# EAGLE library part SCD40-D-R1 (library SCD40-D-R1)
Check availability <https://pricing.snapeda.com/parts/SCD40-D-R1/Sensirion%20AG/view-part?ref=eda>
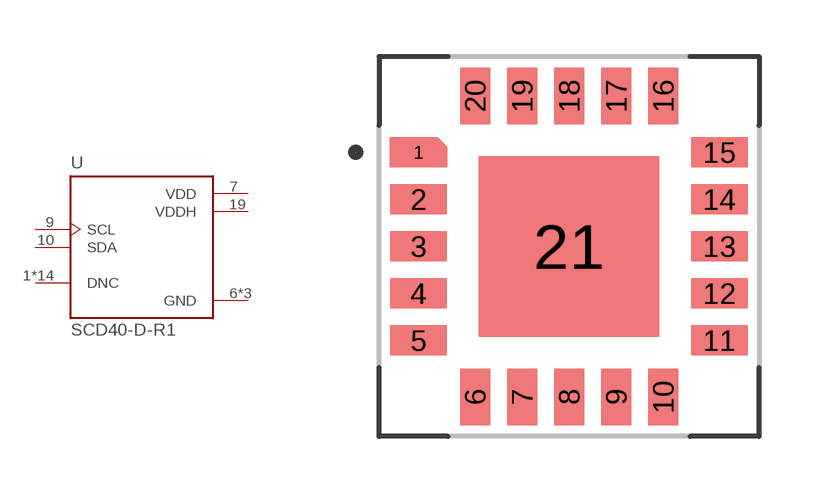
[diagram p0: symbol with the pads of XDCR_SCD40-D-R1; footprint XDCR_SCD40-D-R1]

Designator prefix U

## SCD40-D-R1 (Availability: In Stock; Check_prices: https://www.snapeda.com/parts/SCD40-D-R1/Sensirion/view-part/?ref=eda; Description: Carbon Dioxide (CO2), Humidity, Temperature Sensor I2C; MF: Sensirion AG; MP: SCD40-D-R1; Package: None; Price: None; SnapEDA_Link: https://www.snapeda.com/parts/SCD40-D-R1/Sensirion/view-part/?ref=snap)  [XDCR_SCD40-D-R1]
1  DNC  nc
2  DNC  nc
3  DNC  nc
4  DNC  nc
5  DNC  nc
6  GND  pwr
7  VDD  pwr
8  DNC  nc
9  SCL  in
10  SDA
11  DNC  nc
12  DNC  nc
13  DNC  nc
14  DNC  nc
15  DNC  nc
16  DNC  nc
17  DNC  nc
18  DNC  nc
19  VDDH  pwr
20  GND  pwr
21  GND  pwr

## Footprint XDCR_SCD40-D-R1 (pad centres in mm)
smd 0.5 x 0.5: 1 -4,2.5
smd 1.5 x 0.8: 2 -4,1.25; 3 -4,0; 4 -4,-1.25; 5 -4,-2.5; 11 4,-2.5; 12 4,-1.25; 13 4,0; 14 4,1.25; 15 4,2.5
smd 0.8 x 1.5: 6 -2.5,-4; 7 -1.25,-4; 8 0,-4; 9 1.25,-4; 10 2.5,-4; 16 2.5,4; 17 1.25,4; 18 0,4; 19 -1.25,4; 20 -2.5,4
smd 4.8 x 4.8: 21 0,0